# EAGLE library part HCNR200-300E (library SamacSys_Parts)
Optocoupler AC/DC i/p DC o/p PDIP8 W SMD Avago HCNR200-300E DC Input Photodiode Output Optocoupler, Surface Mount, 8-Pin PDIP-W Source: Datasheet <https://docs.broadcom.com/docs/AV02-0886EN>
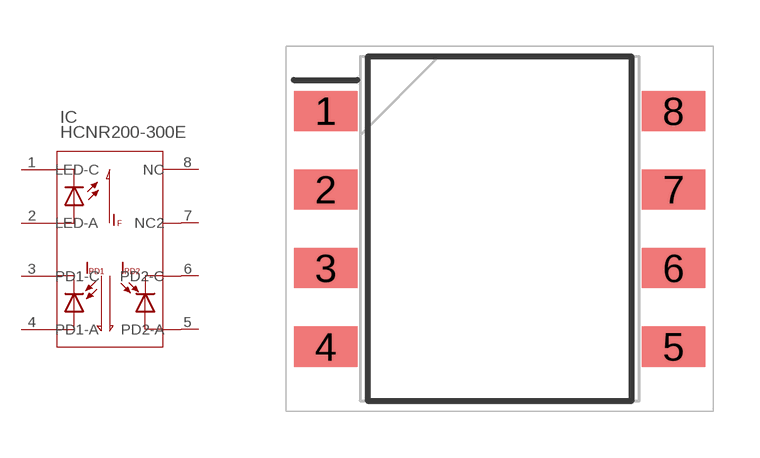
[diagram p17: symbol with the pads of SOP254P1230X400-8N; footprint SOP254P1230X400-8N]

Designator prefix IC

## HCNR200-300E (DESCRIPTION: Optocoupler AC/DC i/p DC o/p PDIP8 W SMD Avago HCNR200-300E DC Input Photodiode Output Optocoupler, Surface Mount, 8-Pin PDIP-W; HEIGHT: 4mm; MANUFACTURER_NAME: Avago Technologies; MANUFACTURER_PART_NUMBER: HCNR200-300E; MOUSER_PART_NUMBER: 630-HCNR200-300E; MOUSER_PRICE-STOCK: https://www.mouser.com/Search/Refine.aspx?Keyword=630-HCNR200-300E; RS_PART_NUMBER: 6935264P; RS_PRICE-STOCK: http://uk.rs-online.com/web/p/products/6935264P)  [SOP254P1230X400-8N]
1  LED-C  pas
2  LED-A  pas
3  PD1-C  pas
4  PD1-A  pas
5  PD2-A  pas
6  PD2-C  pas
7  NC2
8  NC

## Footprint SOP254P1230X400-8N (pad centres in mm)
Gull Wing Surface Mount Option #300
smd 2.05 x 1.3: 1 -5.625,3.81; 2 -5.625,1.27; 3 -5.625,-1.27; 4 -5.625,-3.81; 5 5.625,-3.81; 6 5.625,-1.27; 7 5.625,1.27; 8 5.625,3.81